# EAGLE library part PIC6C595 (library PIC6C595)
Power Logic 8-Bit Shift Register The PIC6C595 is an 8-bit serial-in/serial or parallel-out shift register with a storage register and open-drain outputs designed for use in systems that require relatively moderate load power such as LEDs. The device contains a built-in voltage clamp on the outputs for inductive transient protection. Power driver applications include relays, solenoids, and other low-current or medium-voltage loads.
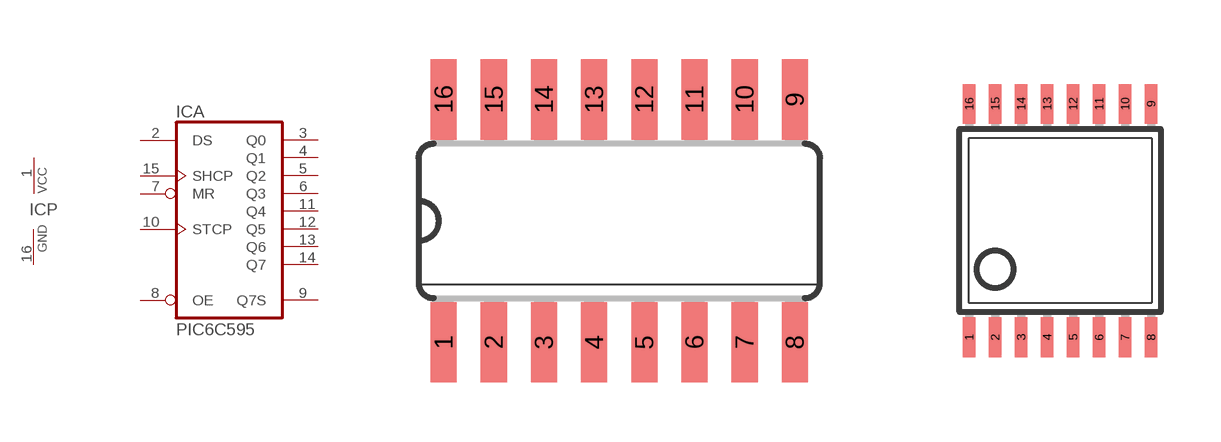
[diagram p0: symbol with the pads of SO16; footprints SO16, TSSOP16]

Designator prefix IC; gates A=PIC6C595 P=PWRN

## PIC6C595D  [SO16]
1  P:VCC  pwr
2  A:DS  in
3  A:Q0  hiz
4  A:Q1  hiz
5  A:Q2  hiz
6  A:Q3  hiz
7  A:MR  in
8  A:OE  in
9  A:Q7S  hiz
10  A:STCP  in
11  A:Q4  hiz
12  A:Q5  hiz
13  A:Q6  hiz
14  A:Q7  hiz
15  A:SHCP  in
16  P:GND  pwr

## PIC6C595PW  [TSSOP16]
Pads as for SO16

## Footprint SO16 (pad centres in mm)
Small Outline package 150 mil
smd 0.66 x 2.032: 1 -4.445,-3.073; 2 -3.175,-3.073; 3 -1.905,-3.073; 4 -0.635,-3.073; 5 0.635,-3.073; 6 1.905,-3.073; 7 3.175,-3.073; 8 4.445,-3.073; 9 4.445,3.073; 10 3.175,3.073; 11 1.905,3.073; 12 0.635,3.073; 13 -0.635,3.073; 14 -1.905,3.073; 15 -3.175,3.073; 16 -4.445,3.073

## Footprint TSSOP16 (pad centres in mm)
Thin Shrink Small Outline Plastic 16 MAX3223-MAX3243.pdf
smd 0.305 x 0.991: 1 -2.275,-2.918; 2 -1.625,-2.918; 3 -0.975,-2.918; 4 -0.325,-2.918; 5 0.325,-2.918; 6 0.975,-2.918; 7 1.625,-2.918; 8 2.275,-2.918; 9 2.275,2.918; 10 1.625,2.918; 11 0.975,2.918; 12 0.325,2.918; 13 -0.325,2.918; 14 -0.975,2.918; 15 -1.625,2.918; 16 -2.275,2.918